# Altium schematic symbol library USB4125-GF-A_REVA2.SchLib: 1 symbol
Pins are listed as number, name and electrical type; pins without a type are passive.

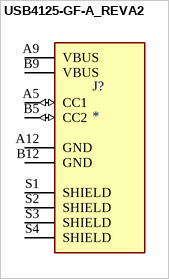
[diagram p0: symbol USB4125-GF-A_REVA2]

## USB4125-GF-A_REVA2
designator J?
MP: USB4125-GF-A_REVA2; Value: *; Availability: Unavailable; Package: None; Price: None
footprint USB4125-GF-A_REVA2
pins: A5 CC1 (io), A9 VBUS (power), A12 GND (power), B5 CC2 (io), B9 VBUS (power), B12 GND (power), S1 SHIELD, S2 SHIELD, S3 SHIELD, S4 SHIELD